# EAGLE library part NEUTX (library ck)
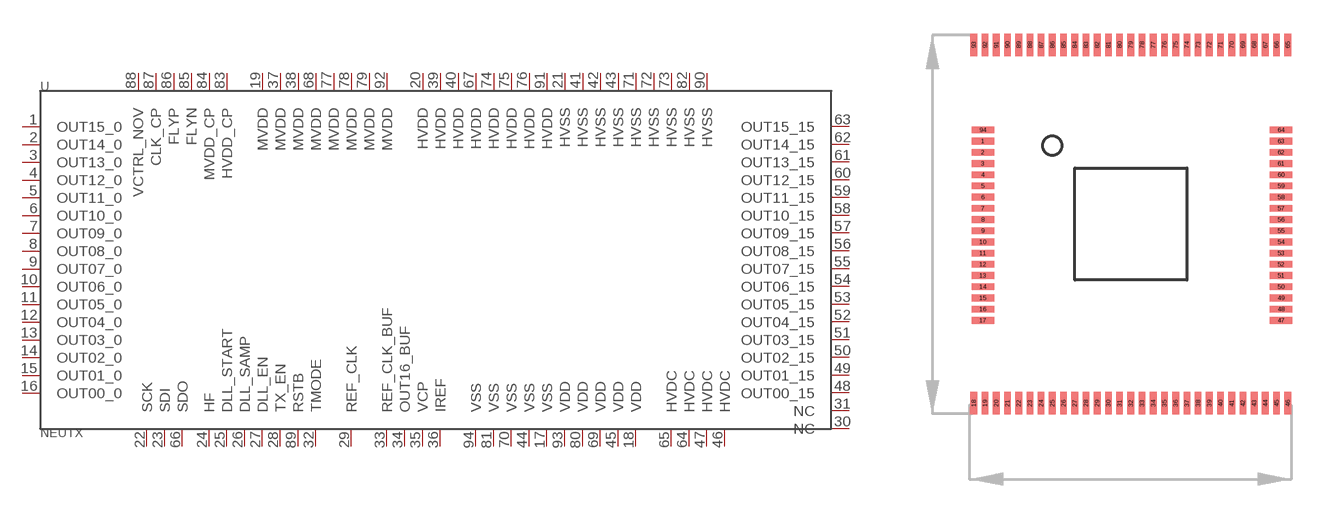
[diagram p17: symbol with the pads of NEUTX_COB; footprint NEUTX_COB]

Designator prefix U

## NEUTX  [NEUTX_COB]
1  OUT15_0  out
2  OUT14_0  out
3  OUT13_0  out
4  OUT12_0  out
5  OUT11_0  out
6  OUT10_0  out
7  OUT09_0  out
8  OUT08_0  out
9  OUT07_0  out
10  OUT06_0  out
11  OUT05_0  out
12  OUT04_0  out
13  OUT03_0  out
14  OUT02_0  out
15  OUT01_0  out
16  OUT00_0  out
17  VSS  pwr
18  VDD  pwr
19  MVDD  pwr
20  HVDD  pwr
21  HVSS  pwr
22  SCK
23  SDI
24  HF
25  DLL_START
26  DLL_SAMP
27  DLL_EN
28  TX_EN
29  REF_CLK
30  NC  nc
31  NC  nc
32  TMODE
33  REF_CLK_BUF
34  OUT16_BUF
35  VCP
36  IREF
37  MVDD  pwr
38  MVDD  pwr
39  HVDD  pwr
40  HVDD  pwr
41  HVSS  pwr
42  HVSS  pwr
43  HVSS  pwr
44  VSS  pwr
45  VDD  pwr
46  HVDC  pwr
47  HVDC  pwr
48  OUT00_15  out
49  OUT01_15  out
50  OUT02_15  out
51  OUT03_15  out
52  OUT04_15  out
53  OUT05_15  out
54  OUT06_15  out
55  OUT07_15  out
56  OUT08_15  out
57  OUT09_15  out
58  OUT10_15  out
59  OUT11_15  out
60  OUT12_15  out
61  OUT13_15  out
62  OUT14_15  out
63  OUT15_15  out
64  HVDC  pwr
65  HVDC  pwr
66  SDO  out
67  HVDD  pwr
68  MVDD  pwr
69  VDD  pwr
70  VSS  pwr
71  HVSS  pwr
72  HVSS  pwr
73  HVSS  pwr
74  HVDD  pwr
75  HVDD  pwr
76  HVDD  pwr
77  MVDD  pwr
78  MVDD  pwr
79  MVDD  pwr
80  VDD  pwr
81  VSS  pwr
82  HVSS  pwr
83  HVDD_CP  pwr
84  MVDD_CP  pwr
85  FLYN
86  FLYP
87  CLK_CP
88  VCTRL_NOV
89  RSTB
90  HVSS  pwr
91  HVDD  pwr
92  MVDD  pwr
93  VDD  pwr
94  VSS  pwr

## Footprint NEUTX_COB (pad centres in mm)
smd 1 x 0.3: 1 -4.1,6.2; 2 -4.1,5.7; 3 -4.1,5.2; 4 -4.1,4.7; 5 -4.1,4.2; 6 -4.1,3.7; 7 -4.1,3.2; 8 -4.1,2.7; 9 -4.1,2.2; 10 -4.1,1.7; 11 -4.1,1.2; 12 -4.1,0.7; 13 -4.1,0.2; 14 -4.1,-0.3; 15 -4.1,-0.8; 16 -4.1,-1.3; 17 -4.1,-1.8; 47 9.2,-1.8; 48 9.2,-1.3; 49 9.2,-0.8; 50 9.2,-0.3; 51 9.2,0.2; 52 9.2,0.7; 53 9.2,1.2; 54 9.2,1.7; 55 9.2,2.2; 56 9.2,2.7; 57 9.2,3.2; 58 9.2,3.7; 59 9.2,4.2; 60 9.2,4.7; 61 9.2,5.2; 62 9.2,5.7; 63 9.2,6.2; 64 9.2,6.7; 94 -4.1,6.7
smd 0.3 x 1: 18 -4.5,-5.5; 19 -4,-5.5; 20 -3.5,-5.5; 21 -3,-5.5; 22 -2.5,-5.5; 23 -2,-5.5; 24 -1.5,-5.5; 25 -1,-5.5; 26 -0.5,-5.5; 27 0,-5.5; 28 0.5,-5.5; 29 1,-5.5; 30 1.5,-5.5; 31 2,-5.5; 32 2.5,-5.5; 33 3,-5.5; 34 3.5,-5.5; 35 4,-5.5; 36 4.5,-5.5; 37 5,-5.5; 38 5.5,-5.5; 39 6,-5.5; 40 6.5,-5.5; 41 7,-5.5; 42 7.5,-5.5; 43 8,-5.5; 44 8.5,-5.5; 45 9,-5.5; 46 9.5,-5.5; 65 9.5,10.5; 66 9,10.5; 67 8.5,10.5; 68 8,10.5; 69 7.5,10.5; 70 7,10.5; 71 6.5,10.5; 72 6,10.5; 73 5.5,10.5; 74 5,10.5; 75 4.5,10.5; 76 4,10.5; 77 3.5,10.5; 78 3,10.5; 79 2.5,10.5; 80 2,10.5; 81 1.5,10.5; 82 1,10.5; 83 0.5,10.5; 84 0,10.5; 85 -0.5,10.5; 86 -1,10.5; 87 -1.5,10.5; 88 -2,10.5; 89 -2.5,10.5; 90 -3,10.5; 91 -3.5,10.5; 92 -4,10.5; 93 -4.5,10.5